# Altium footprint library jobeiri_library.PcbLib: 20 footprints (part 2 of 2)
Each footprint in its own frame and in the unit in brackets; x right, y up, seen from the top. Pads: shape width x height; smd on the part's side, far side on the other; paste and mask are expansions set on the pad; w line width, h text height; cw(c..) or ccw(c..) is an arc to the next point about the centre after c.
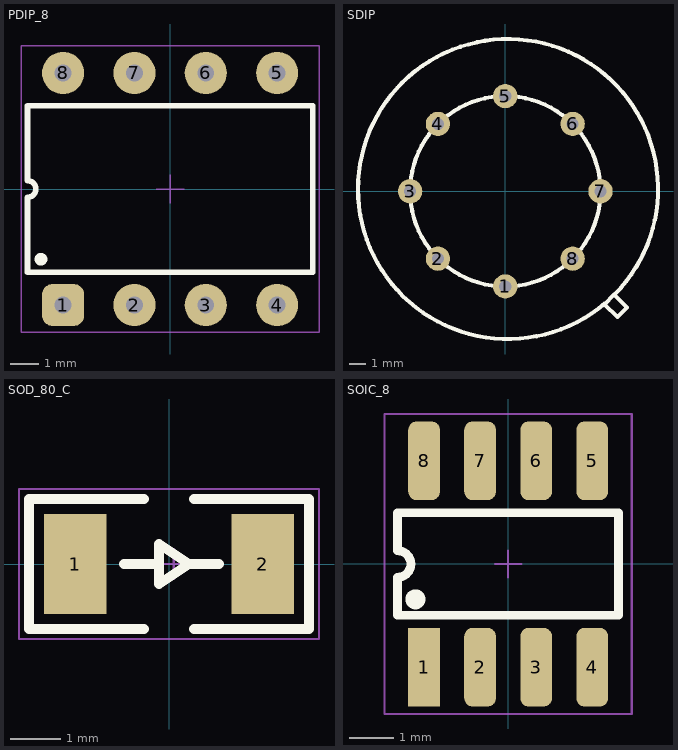
[diagram p1: the footprints below, top view; thin cyan lines are the x and y axes]

## PDIP_8 [mm]
pads (8):
  rrect50% 1.5x1.5 hole 0.6: 1(-3.81,-4.13)
  round 1.5 hole 0.6: 2(-1.27,-4.13) 3(1.27,-4.13) 4(3.81,-4.13) 5(3.81,4.13) 6(1.27,4.13) 7(-1.27,4.13) 8(-3.81,4.13)
Top Overlay:
  circle w0.254: c-4.6,-2.5 r0.1
  lines w0.2: -5.08,-2.97 5.08,-2.97 5.08,2.97 -5.08,2.97 -5.079,2.97 -5.079,0.301 cw(c-5.08,0) -5.079,-0.301 -5.08,-0.301 -5.08,-2.97
Mechanical 15:
  lines w0.05: -0.5,0 0,0 ; 0,-0.5 0,0 ; 0,0.5 0,0 ; 0.5,0 0,0 ; -5.3,-5.1 -5.3,5.1 5.3,5.1 5.3,-5.1 -5.3,-5.1

## SDIP [mil]
pads (8):
  round 60 hole 30: 1(0,-234.65) 2(-165.92,-165.92) 3(-234.65,0) 4(-165.92,165.92) 5(0,234.65) 6(165.92,165.92) 7(234.65,0) 8(165.92,-165.92)
Top Overlay:
  circle w10: c0,0 r234.65
  lines w10: 245.82,-276.33 cw(c6.68,5.58) 270.49,-253.4 ; 244.52,-278.62 276.26,-310.36 300.2,-286.42 268.46,-254.68 244.52,-278.62

## SOD_80_C [mm]
pads (2):
  rect 1.25x2 smd: 1(-1.875,0) 2(1.875,0)
Top Overlay:
  lines w0.2: -0.9,0 -0.2,0 ; -0.5,-1.3 -2.8,-1.3 -2.8,1.3 -0.5,1.3 ; 0.5,-1.3 2.8,-1.3 2.8,1.3 0.5,1.3 ; 1,0 0.4,0 ; -0.2,0 -0.2,-0.4 0.4,0 ; -0.2,0 -0.2,0.4 0.4,0
Mechanical 15:
  lines w0.05: -0.2,0 0.1,0 ; 0.1,-0.3 0.1,0 ; 0.1,0.3 0.1,0 ; 0.4,0 0.1,0 ; -3,-1.5 -3,1.5 3,1.5 3,-1.5 -3,-1.5

## SOIC_8 [mm]
pads (8):
  rect 0.72x1.78 smd paste+0: 1(-1.905,-2.34)
  rrect50% 0.72x1.78 smd paste+0: 2(-0.635,-2.34) 3(0.635,-2.34) 4(1.905,-2.34) 5(1.905,2.34) 6(0.635,2.34) 7(-0.635,2.34) 8(-1.905,2.34)
Top Overlay:
  circle w0.254: c-2.1,-0.8 r0.1
  lines w0.2: -2.505,-1.16 -2.505,-1.16 ; -2.505,-1.16 2.505,-1.16 2.505,1.16 -2.505,1.16 ; -2.505,-1.16 -2.505,-0.301 ; -2.504,-0.301 ccw(c-2.505,0) -2.504,0.301 -2.504,1.16 ; -2.505,-0.301 -2.504,-0.301 ; -2.505,1.16 -2.505,1.16 ; -2.505,1.16 -2.504,1.16
Mechanical 15:
  lines w0.05: -0.3,0 0,0 ; 0,-0.3 0,0 ; 0,0.3 0,0 ; 0.3,0 0,0 ; -2.8,-3.4 2.8,-3.4 2.8,3.4 -2.8,3.4 -2.8,-3.4